# EAGLE library part TE_1571600-1_DP5T (library switches)
Through hole DP5T switch.
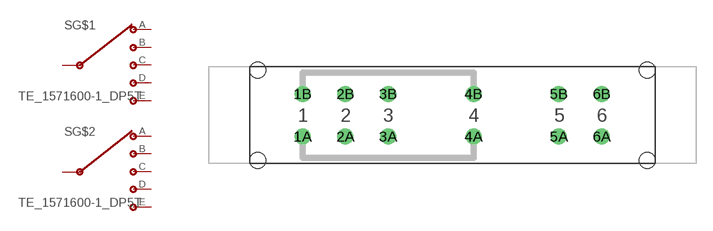
[diagram p4: symbol with the pads of TE_1571600-1; footprint TE_1571600-1]

Designator prefix S; gates G$1=SP5T G$2=SP5T

## TE_1571600-1_DP5T (DIGIKEY: A112404-ND)  [TE_1571600-1]
1A  G$1:A
1B  G$2:A
2A  G$1:B
2B  G$2:B
3A  G$1:C
3B  G$2:C
4A  G$1:INPUT
4B  G$2:INPUT
5A  G$1:D
5B  G$2:D
6A  G$1:E
6B  G$2:E

## Footprint TE_1571600-1 (pad centres in mm)
DP5T
drill 0.8 pad 1.5: 1A -14.03,-2; 1B -14.03,2; 2A -10.03,-2; 2B -10.03,2; 3A -6.03,-2; 3B -6.03,2; 4A 1.97,-2; 4B 1.97,2; 5A 9.97,-2; 5B 9.97,2; 6A 13.97,-2; 6B 13.97,2
hole 1.5 at 18.25,4.25
hole 1.5 at 18.25,-4.25
hole 1.5 at -18.25,4.25
hole 1.5 at -18.25,-4.25